# Altium footprint library 52271612.PcbLib: 1 footprints
Each footprint in its own frame and in the unit in brackets; x right, y up, seen from the top. Pads: shape width x height; smd on the part's side, far side on the other; paste and mask are expansions set on the pad; w line width, h text height; cw(c..) or ccw(c..) is an arc to the next point about the centre after c.
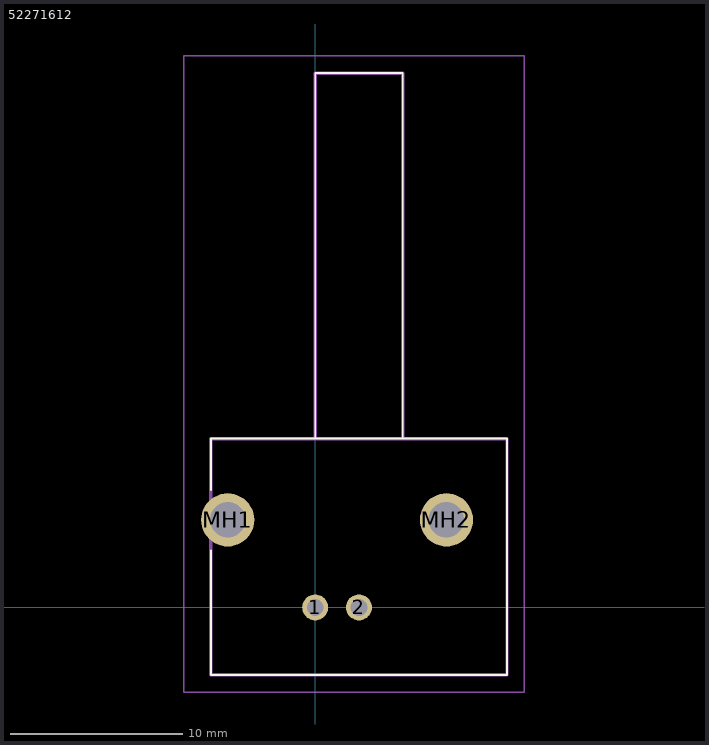
[diagram p0: the footprint, top view; thin cyan lines are the x and y axes]

## 52271612 [mm]
pads (4):
  round 1.509 hole 0.97: 1(0,0) 2(2.54,0)
  round 3.09 hole 2.06: MH1(-5.08,5.08) MH2(7.62,5.08)
Top Overlay:
  lines w0.1: -6.05,3.3 -6.05,-3.92 11.13,-3.92 11.13,9.8 -6.05,9.8 -6.05,6.8 ; 0,9.8 0,31.01 5.08,31.01 5.08,9.8
Mechanical 15:
  lines w0.2: 0,9.8 0,31.01 5.08,31.01 5.08,9.8 ; -6.05,-3.92 -6.05,9.8 11.13,9.8 11.13,-3.92 -6.05,-3.92
Mechanical 20:
  lines w0.1: -7.625,-4.92 -7.625,32.01 12.13,32.01 12.13,-4.92 -7.625,-4.92
3D body "5227161-2.stp": height 17.48, standoff -2.51, extent -5.359,-2.794 9.398,32.766